# Altium schematic symbol library CGA2B1X7R1C104K050BC.SchLib: 1 symbol
Pins are listed as number, name and electrical type; pins without a type are passive.

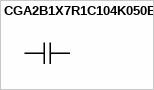
[diagram p0: symbol CGA2B1X7R1C104K050BC]

## CGA2B1X7R1C104K050BC
designator ?
CAP CER 0.1UF 16V X7R 0402
pins: 1, 2 1